# Altium schematic symbol library SXLP-450+.SchLib: 1 symbol
Pins are listed as number, name and electrical type; pins without a type are passive.

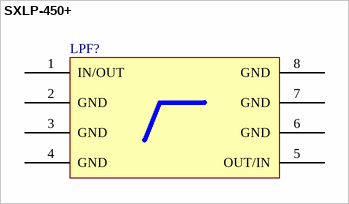
[diagram p0: symbol SXLP-450+]

## SXLP-450+
designator LPF?
SXLP-450+, Low Pass Filter, Mini Circuits, DC to 450 MHz
footprint SXLP-450+
pins: 1 IN/OUT, 2 GND, 3 GND, 4 GND, 5 OUT/IN, 6 GND, 7 GND, 8 GND